# Altium integrated library NSC MiscPower.IntLib: 742 symbols (part 2 of 19)
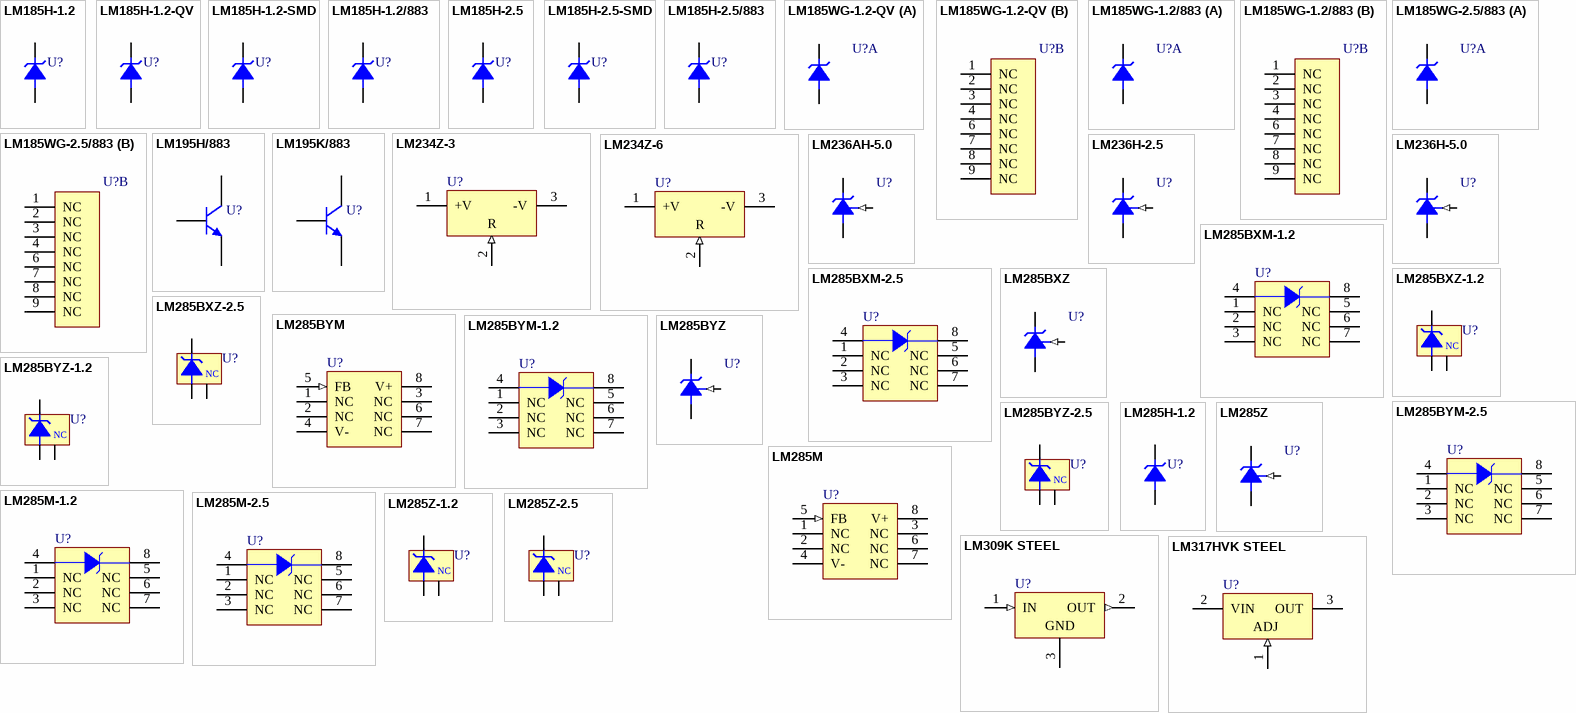
[diagram p26: symbols LM185H-1.2 to LM317HVK STEEL]

## LM195K/883
designator U?
Ultra Reliable Power Transistor; PartNumber: LM195K/883; Manufacturer: National Semiconductor; CompType: MiscPower; PackageTopMarking: NS ZSSXXYYA*LM195K/883*Q 5962-*8777801YA; FirstPublished: 4-Dec-2008; DatasheetVersion: Jul-2000; PackageVersion: revE, Sep-1995; PackageReference: K02C; Publisher: Altium Limited; PackageDescription: Metal Can TO-3, 2 Lead, Low Profile; RoHS: N; PinCount: 2; ComponentLink1Description: LM195 Datasheet; ComponentLink1URL: http://www.national.com/ds/LM/LM195.pdf; ComponentLink2Description: LM195 Web Page; ComponentLink2URL: http://www.national.com/pf/LM/LM195.html; ComponentLink3Description: K02C Package Page; ComponentLink3URL: http://www.national.com/packaging/folders/k02c.html
footprint K02C (Oval Flange Mount with (2) Offset Leads; Pin Spacing 10.92 mm; Lead Dia. 1.09 mm (max))
pins: 1 B, 2 C, 3 E

## LM234Z-3
designator U?
3-Terminal Adjustable Current Source; PartNumber: LM234Z-3; Manufacturer: National Semiconductor; CompType: MiscPower; PackageTopMarking: NSXYTT*LM234*Z-3; PowerWise: N; FirstPublished: 4-Dec-2008; DatasheetVersion: Mar-2005; PackageVersion: revG, Sep-2000; PackageReference: Z03A; Publisher: Altium Limited; PackageDescription: TO-92, Molded, 3 Lead; RoHS: O; PinCount: 3; DigiKeyPartNumber: LM234Z-3-ND; Code_JEDEC: TO-226-AA; ComponentLink1Description: LM234 Datasheet; ComponentLink1URL: http://www.national.com/ds/LM/LM134.pdf; ComponentLink2Description: LM234 Web Page; ComponentLink2URL: http://www.national.com/pf/LM/LM234.html; ComponentLink3Description: Z03A Package Page; ComponentLink3URL: http://www.national.com/packaging/folders/z03a.html
footprint Z03A (TO, Flat Index; 3 In-Line, Axial Leads; Body Dia. 5mm; Leads 0.55 x 0.50 mm (max))
pins: 1 +V, 2 R (in), 3 -V

## LM234Z-6
designator U?
3-Terminal Adjustable Current Source; PartNumber: LM234Z-6; Manufacturer: National Semiconductor; CompType: MiscPower; PackageTopMarking: NSXYTT*LM234*Z-6; PowerWise: N; FirstPublished: 4-Dec-2008; DatasheetVersion: Mar-2005; PackageVersion: revG, Sep-2000; PackageReference: Z03A; Publisher: Altium Limited; PackageDescription: TO-92, Molded, 3 Lead; RoHS: Y; PinCount: 3; DigiKeyPartNumber: LM234Z-6-ND; Code_JEDEC: TO-226-AA; ComponentLink1Description: LM234 Datasheet; ComponentLink1URL: http://www.national.com/ds/LM/LM134.pdf; ComponentLink2Description: LM234 Web Page; ComponentLink2URL: http://www.national.com/pf/LM/LM234.html; ComponentLink3Description: Z03A Package Page; ComponentLink3URL: http://www.national.com/packaging/folders/z03a.html
footprint Z03A (TO, Flat Index; 3 In-Line, Axial Leads; Body Dia. 5mm; Leads 0.55 x 0.50 mm (max))
pins: 1 +V, 2 R (in), 3 -V

## LM236AH-5.0
designator U?
5.0V Reference Diode; PartNumber: LM236AH-5.0; Manufacturer: National Semiconductor; CompType: MiscPower; PackageTopMarking: NSXYTTE# LM236AH5.0; PowerWise: N; FirstPublished: 4-Dec-2008; DatasheetVersion: Feb-2009; PackageVersion: revF, Apr-2002; PackageReference: H03H; Publisher: Altium Limited; PackageDescription: Metal Can, TO-46, 3 Lead, .100in Dia, P.C.; RoHS: O; PinCount: 3; DigiKeyPartNumber: LM236AH-5.0-ND; Code_JEDEC: TO-46; ComponentLink1Description: LM236-5.0 Datasheet; ComponentLink1URL: http://www.national.com/ds/LM/LM136-5.0.pdf; ComponentLink2Description: LM236-5.0 Web Page; ComponentLink2URL: http://www.national.com/pf/LM/LM236-5.0.html; ComponentLink3Description: H03H Package Page; ComponentLink3URL: http://www.national.com/packaging/folders/h03h.html
footprint H03H (Can; 3 Leads; Pin Circle Dia. 2.54 mm; Lead Dia. 0.48 mm (max))
pins: 1 ADJ (in), 2 +V, 3 -V

## LM236H-2.5
designator U?
Voltage Reference Diode; PartNumber: LM236H-2.5; Manufacturer: National Semiconductor; CompType: MiscPower; PackageTopMarking: NSXYTTE# LM236H2.5; PowerWise: N; FirstPublished: 4-Dec-2008; DatasheetVersion: Feb-2009; PackageVersion: revF, Apr-2002; PackageReference: H03H; Publisher: Altium Limited; PackageDescription: Metal Can, TO-46, 3 Lead, .100in Dia, P.C.; RoHS: O; PinCount: 3; DigiKeyPartNumber: LM236H-2.5-ND; Code_JEDEC: TO-46; ComponentLink1Description: LM236-2.5 Datasheet; ComponentLink1URL: http://www.national.com/ds/LM/LM136-2.5.pdf; ComponentLink2Description: LM236-2.5 Web Page; ComponentLink2URL: http://www.national.com/pf/LM/LM236-2.5.html; ComponentLink3Description: H03H Package Page; ComponentLink3URL: http://www.national.com/packaging/folders/h03h.html
footprint H03H (Can; 3 Leads; Pin Circle Dia. 2.54 mm; Lead Dia. 0.48 mm (max))
pins: 1 ADJ (in), 2 +V, 3 -V

## LM236H-5.0
designator U?
5.0V Reference Diode; PartNumber: LM236H-5.0; Manufacturer: National Semiconductor; CompType: MiscPower; PackageTopMarking: NSXYTTE# LM236H5.0; PowerWise: N; FirstPublished: 4-Dec-2008; DatasheetVersion: Feb-2009; PackageVersion: revF, Apr-2002; PackageReference: H03H; Publisher: Altium Limited; PackageDescription: Metal Can, TO-46, 3 Lead, .100in Dia, P.C.; RoHS: O; PinCount: 3; DigiKeyPartNumber: LM236H-5.0-ND; Code_JEDEC: TO-46; ComponentLink1Description: LM236-5.0 Datasheet; ComponentLink1URL: http://www.national.com/ds/LM/LM136-5.0.pdf; ComponentLink2Description: LM236-5.0 Web Page; ComponentLink2URL: http://www.national.com/pf/LM/LM236-5.0.html; ComponentLink3Description: H03H Package Page; ComponentLink3URL: http://www.national.com/packaging/folders/h03h.html
footprint H03H (Can; 3 Leads; Pin Circle Dia. 2.54 mm; Lead Dia. 0.48 mm (max))
pins: 1 ADJ (in), 2 +V, 3 -V

## LM285BXM-1.2
designator U?
Micropower Voltage Reference Diode; PartNumber: LM285BXM-1.2; Manufacturer: National Semiconductor; CompType: MiscPower; PackageTopMarking: NSZXTT*285BX*M1.2; PowerWise: N; FirstPublished: 4-Dec-2008; DatasheetVersion: Jan-2008; PackageVersion: revL, Sep-2006; PackageReference: M08A; Publisher: Altium Limited; PackageDescription: SOIC Narrow, 4.9 x 3.9 x 1.45mm, 8 Lead, 1.27mm Pitch; RoHS: O; PinCount: 8; DigiKeyPartNumber: LM285BXM-1.2-ND; Code_JEDEC: MS-012-AA; Code_IPC: SOIC127P600-8; ComponentLink1Description: LM285-1.2 Datasheet; ComponentLink1URL: http://www.national.com/ds/LM/LM185-1.2.pdf; ComponentLink2Description: LM285-1.2 Web Page; ComponentLink2URL: http://www.national.com/pf/LM/LM285-1.2.html; ComponentLink3Description: M08A Package Page; ComponentLink3URL: http://www.national.com/packaging/folders/m08a.html
footprint M08A_N (SOIC, 8-Leads, Body 4.9x3.9mm, Pitch 1.27mm, IPC Medium Density)
footprint M08A_L (SOIC, 8-Leads, Body 4.9x3.9mm, Pitch 1.27mm, IPC High Density)
footprint M08A_M (SOIC, 8-Leads, Body 4.9x3.9mm, Pitch 1.27mm, IPC Low Density)
pins: 1 NC, 2 NC, 3 NC, 4 A, 5 NC, 6 NC, 7 NC, 8 K

## LM285BXM-2.5
designator U?
Micropower Voltage Reference Diode; PartNumber: LM285BXM-2.5; Manufacturer: National Semiconductor; CompType: MiscPower; PackageTopMarking: NSZXTT*285BX*M2.5; PowerWise: N; FirstPublished: 4-Dec-2008; DatasheetVersion: Jan-2008; PackageVersion: revL, Sep-2006; PackageReference: M08A; Publisher: Altium Limited; PackageDescription: SOIC Narrow, 4.9 x 3.9 x 1.45mm, 8 Lead, 1.27mm Pitch; RoHS: O; PinCount: 8; DigiKeyPartNumber: LM285BXM-2.5-ND; Code_JEDEC: MS-012-AA; Code_IPC: SOIC127P600-8; ComponentLink1Description: LM285-2.5 Datasheet; ComponentLink1URL: http://www.national.com/ds/LM/LM185-2.5.pdf; ComponentLink2Description: LM285-2.5 Web Page; ComponentLink2URL: http://www.national.com/pf/LM/LM285-2.5.html; ComponentLink3Description: M08A Package Page; ComponentLink3URL: http://www.national.com/packaging/folders/m08a.html
footprint M08A_N (SOIC, 8-Leads, Body 4.9x3.9mm, Pitch 1.27mm, IPC Medium Density)
footprint M08A_L (SOIC, 8-Leads, Body 4.9x3.9mm, Pitch 1.27mm, IPC High Density)
footprint M08A_M (SOIC, 8-Leads, Body 4.9x3.9mm, Pitch 1.27mm, IPC Low Density)
pins: 1 NC, 2 NC, 3 NC, 4 A, 5 NC, 6 NC, 7 NC, 8 K

## LM285BXZ
designator U?
Adjustable Micropower Voltage Reference; PartNumber: LM285BXZ; Manufacturer: National Semiconductor; CompType: MiscPower; PackageTopMarking: NSXYTT*LM285*BXZ; PowerWise: N; FirstPublished: 4-Dec-2008; DatasheetVersion: Jan-2008; PackageVersion: revG, Sep-2000; PackageReference: Z03A; Publisher: Altium Limited; PackageDescription: TO-92, Molded, 3 Lead; RoHS: O; PinCount: 3; DigiKeyPartNumber: LM285BXZ-ND; Code_JEDEC: TO-226-AA; ComponentLink1Description: LM285-ADJ Datasheet; ComponentLink1URL: http://www.national.com/ds/LM/LM185-ADJ.pdf; ComponentLink2Description: LM285-ADJ Web Page; ComponentLink2URL: http://www.national.com/pf/LM/LM285-ADJ.html; ComponentLink3Description: Z03A Package Page; ComponentLink3URL: http://www.national.com/packaging/folders/z03a.html
footprint Z03A (TO, Flat Index; 3 In-Line, Axial Leads; Body Dia. 5mm; Leads 0.55 x 0.50 mm (max))
pins: 1 FB (in), 2 +V, 3 -V

## LM285BXZ-1.2
designator U?
Micropower Voltage Reference Diode; PartNumber: LM285BXZ-1.2; Manufacturer: National Semiconductor; CompType: MiscPower; PackageTopMarking: NSXYTT*285BX*Z-1.2; PowerWise: N; FirstPublished: 4-Dec-2008; DatasheetVersion: Jan-2008; PackageVersion: revG, Sep-2000; PackageReference: Z03A; Publisher: Altium Limited; PackageDescription: TO-92, Molded, 3 Lead; RoHS: Y; PinCount: 3; DigiKeyPartNumber: LM285BXZ-1.2-ND; Code_JEDEC: TO-226-AA; ComponentLink1Description: LM285-1.2 Datasheet; ComponentLink1URL: http://www.national.com/ds/LM/LM185-1.2.pdf; ComponentLink2Description: LM285-1.2 Web Page; ComponentLink2URL: http://www.national.com/pf/LM/LM285-1.2.html; ComponentLink3Description: Z03A Package Page; ComponentLink3URL: http://www.national.com/packaging/folders/z03a.html
footprint Z03A (TO, Flat Index; 3 In-Line, Axial Leads; Body Dia. 5mm; Leads 0.55 x 0.50 mm (max))
pins: 1 NC, 2 V+, 3 V-

## LM285BXZ-2.5
designator U?
Micropower Voltage Reference Diode; PartNumber: LM285BXZ-2.5; Manufacturer: National Semiconductor; CompType: MiscPower; PackageTopMarking: NSXYTT*285BX*Z2.5; PowerWise: N; FirstPublished: 4-Dec-2008; DatasheetVersion: Jan-2008; PackageVersion: revG, Sep-2000; PackageReference: Z03A; Publisher: Altium Limited; PackageDescription: TO-92, Molded, 3 Lead; RoHS: O; PinCount: 3; DigiKeyPartNumber: LM285BXZ-2.5-ND; Code_JEDEC: TO-226-AA; ComponentLink1Description: LM285-2.5 Datasheet; ComponentLink1URL: http://www.national.com/ds/LM/LM185-2.5.pdf; ComponentLink2Description: LM285-2.5 Web Page; ComponentLink2URL: http://www.national.com/pf/LM/LM285-2.5.html; ComponentLink3Description: Z03A Package Page; ComponentLink3URL: http://www.national.com/packaging/folders/z03a.html
footprint Z03A (TO, Flat Index; 3 In-Line, Axial Leads; Body Dia. 5mm; Leads 0.55 x 0.50 mm (max))
pins: 1 NC, 2 V+, 3 V-

## LM285BYM
designator U?
Adjustable Micropower Voltage Reference; PartNumber: LM285BYM; Manufacturer: National Semiconductor; CompType: MiscPower; PackageTopMarking: NSZXTT*LM285*BYM; PowerWise: N; FirstPublished: 4-Dec-2008; DatasheetVersion: Jan-2008; PackageVersion: revL, Sep-2006; PackageReference: M08A; Publisher: Altium Limited; PackageDescription: SOIC Narrow, 4.9 x 3.9 x 1.45mm, 8 Lead, 1.27mm Pitch; RoHS: O; PinCount: 8; DigiKeyPartNumber: LM285BYM-ND; Code_JEDEC: MS-012-AA; Code_IPC: SOIC127P600-8; ComponentLink1Description: LM285-ADJ Datasheet; ComponentLink1URL: http://www.national.com/ds/LM/LM185-ADJ.pdf; ComponentLink2Description: LM285-ADJ Web Page; ComponentLink2URL: http://www.national.com/pf/LM/LM285-ADJ.html; ComponentLink3Description: M08A Package Page; ComponentLink3URL: http://www.national.com/packaging/folders/m08a.html
footprint M08A_N (SOIC, 8-Leads, Body 4.9x3.9mm, Pitch 1.27mm, IPC Medium Density)
footprint M08A_L (SOIC, 8-Leads, Body 4.9x3.9mm, Pitch 1.27mm, IPC High Density)
footprint M08A_M (SOIC, 8-Leads, Body 4.9x3.9mm, Pitch 1.27mm, IPC Low Density)
pins: 1 NC, 2 NC, 3 NC, 4 V-, 5 FB (in), 6 NC, 7 NC, 8 V+

## LM285BYM-1.2
designator U?
Micropower Voltage Reference Diode; PartNumber: LM285BYM-1.2; Manufacturer: National Semiconductor; CompType: MiscPower; PackageTopMarking: NSZXTT*285BY*M1.2; PowerWise: N; FirstPublished: 4-Dec-2008; DatasheetVersion: Jan-2008; PackageVersion: revL, Sep-2006; PackageReference: M08A; Publisher: Altium Limited; PackageDescription: SOIC Narrow, 4.9 x 3.9 x 1.45mm, 8 Lead, 1.27mm Pitch; RoHS: O; PinCount: 8; Code_JEDEC: MS-012-AA; Code_IPC: SOIC127P600-8; ComponentLink1Description: LM285-1.2 Datasheet; ComponentLink1URL: http://www.national.com/ds/LM/LM185-1.2.pdf; ComponentLink2Description: LM285-1.2 Web Page; ComponentLink2URL: http://www.national.com/pf/LM/LM285-1.2.html; ComponentLink3Description: M08A Package Page; ComponentLink3URL: http://www.national.com/packaging/folders/m08a.html
footprint M08A_N (SOIC, 8-Leads, Body 4.9x3.9mm, Pitch 1.27mm, IPC Medium Density)
footprint M08A_L (SOIC, 8-Leads, Body 4.9x3.9mm, Pitch 1.27mm, IPC High Density)
footprint M08A_M (SOIC, 8-Leads, Body 4.9x3.9mm, Pitch 1.27mm, IPC Low Density)
pins: 1 NC, 2 NC, 3 NC, 4 A, 5 NC, 6 NC, 7 NC, 8 K

## LM285BYM-2.5
designator U?
Micropower Voltage Reference Diode; PartNumber: LM285BYM-2.5; Manufacturer: National Semiconductor; CompType: MiscPower; PackageTopMarking: NSZXTT*285BY*M2.5; PowerWise: N; FirstPublished: 4-Dec-2008; DatasheetVersion: Jan-2008; PackageVersion: revL, Sep-2006; PackageReference: M08A; Publisher: Altium Limited; PackageDescription: SOIC Narrow, 4.9 x 3.9 x 1.45mm, 8 Lead, 1.27mm Pitch; RoHS: O; PinCount: 8; DigiKeyPartNumber: LM285BYM-2.5-ND; Code_JEDEC: MS-012-AA; Code_IPC: SOIC127P600-8; ComponentLink1Description: LM285-2.5 Datasheet; ComponentLink1URL: http://www.national.com/ds/LM/LM185-2.5.pdf; ComponentLink2Description: LM285-2.5 Web Page; ComponentLink2URL: http://www.national.com/pf/LM/LM285-2.5.html; ComponentLink3Description: M08A Package Page; ComponentLink3URL: http://www.national.com/packaging/folders/m08a.html
footprint M08A_N (SOIC, 8-Leads, Body 4.9x3.9mm, Pitch 1.27mm, IPC Medium Density)
footprint M08A_L (SOIC, 8-Leads, Body 4.9x3.9mm, Pitch 1.27mm, IPC High Density)
footprint M08A_M (SOIC, 8-Leads, Body 4.9x3.9mm, Pitch 1.27mm, IPC Low Density)
pins: 1 NC, 2 NC, 3 NC, 4 A, 5 NC, 6 NC, 7 NC, 8 K

## LM285BYZ
designator U?
Adjustable Micropower Voltage Reference; PartNumber: LM285BYZ; Manufacturer: National Semiconductor; CompType: MiscPower; PackageTopMarking: NSXYTT*LM285*BYZ; PowerWise: N; FirstPublished: 4-Dec-2008; DatasheetVersion: Jan-2008; PackageVersion: revG, Sep-2000; PackageReference: Z03A; Publisher: Altium Limited; PackageDescription: TO-92, Molded, 3 Lead; RoHS: Y; PinCount: 3; DigiKeyPartNumber: LM285BYZ-ND; Code_JEDEC: TO-226-AA; ComponentLink1Description: LM285-ADJ Datasheet; ComponentLink1URL: http://www.national.com/ds/LM/LM185-ADJ.pdf; ComponentLink2Description: LM285-ADJ Web Page; ComponentLink2URL: http://www.national.com/pf/LM/LM285-ADJ.html; ComponentLink3Description: Z03A Package Page; ComponentLink3URL: http://www.national.com/packaging/folders/z03a.html
footprint Z03A (TO, Flat Index; 3 In-Line, Axial Leads; Body Dia. 5mm; Leads 0.55 x 0.50 mm (max))
pins: 1 FB (in), 2 +V, 3 -V

## LM285BYZ-1.2
designator U?
Micropower Voltage Reference Diode; PartNumber: LM285BYZ-1.2; Manufacturer: National Semiconductor; CompType: MiscPower; PackageTopMarking: NSXYTT*285BY*Z-1.2; FirstPublished: 4-Dec-2008; DatasheetVersion: Jan-2008; PackageVersion: revG, Sep-2000; PackageReference: Z03A; Publisher: Altium Limited; PackageDescription: TO-92, Molded, 3 Lead; RoHS: O; PinCount: 3; DigiKeyPartNumber: LM285BYZ-1.2-ND; Code_JEDEC: TO-226-AA; ComponentLink1Description: LM285-1.2 Datasheet; ComponentLink1URL: http://www.national.com/ds/LM/LM185-1.2.pdf; ComponentLink2Description: LM285-1.2 Web Page; ComponentLink2URL: http://www.national.com/pf/LM/LM285-1.2.html; ComponentLink3Description: Z03A Package Page; ComponentLink3URL: http://www.national.com/packaging/folders/z03a.html
footprint Z03A (TO, Flat Index; 3 In-Line, Axial Leads; Body Dia. 5mm; Leads 0.55 x 0.50 mm (max))
pins: 1 NC, 2 V+, 3 V-

## LM285BYZ-2.5
designator U?
Micropower Voltage Reference Diode; PartNumber: LM285BYZ-2.5; Manufacturer: National Semiconductor; CompType: MiscPower; PackageTopMarking: NSXYTT*285BY*Z2.5; PowerWise: N; FirstPublished: 4-Dec-2008; DatasheetVersion: Jan-2008; PackageVersion: revG, Sep-2000; PackageReference: Z03A; Publisher: Altium Limited; PackageDescription: TO-92, Molded, 3 Lead; RoHS: O; PinCount: 3; DigiKeyPartNumber: LM285BYZ-2.5-ND; Code_JEDEC: TO-226-AA; ComponentLink1Description: LM285-2.5 Datasheet; ComponentLink1URL: http://www.national.com/ds/LM/LM185-2.5.pdf; ComponentLink2Description: LM285-2.5 Web Page; ComponentLink2URL: http://www.national.com/pf/LM/LM285-2.5.html; ComponentLink3Description: Z03A Package Page; ComponentLink3URL: http://www.national.com/packaging/folders/z03a.html
footprint Z03A (TO, Flat Index; 3 In-Line, Axial Leads; Body Dia. 5mm; Leads 0.55 x 0.50 mm (max))
pins: 1 NC, 2 V+, 3 V-

## LM285H-1.2
designator U?
Micropower Voltage Reference Diode; PartNumber: LM285H-1.2; Manufacturer: National Semiconductor; CompType: MiscPower; PackageTopMarking: NSXYTTE# LM285H1.2; PowerWise: N; FirstPublished: 4-Dec-2008; DatasheetVersion: Jan-2008; PackageVersion: revF, Apr-2002; PackageReference: H02A; Publisher: Altium Limited; PackageDescription: Metal Can, TO-46, 2 Lead, .100in Dia, P.C.; RoHS: O; PinCount: 2; Code_JEDEC: TO-46; ComponentLink1Description: LM285-1.2 Datasheet; ComponentLink1URL: http://www.national.com/ds/LM/LM185-1.2.pdf; ComponentLink2Description: LM285-1.2 Web Page; ComponentLink2URL: http://www.national.com/pf/LM/LM285-1.2.html; ComponentLink3Description: H02A Package Page; ComponentLink3URL: http://www.national.com/packaging/folders/h02a.html
footprint H02A (Can; 2 Leads; Pin Circle Dia. 2.54 mm; Lead Dia. 0.48 mm (max))
pins: 1 V+ (power), 2 V- (power)

## LM285M
designator U?
Adjustable Micropower Voltage Reference; PartNumber: LM285M; Manufacturer: National Semiconductor; CompType: MiscPower; PackageTopMarking: NSZXTT*LM285*M; PowerWise: N; FirstPublished: 4-Dec-2008; DatasheetVersion: Jan-2008; PackageVersion: revL, Sep-2006; PackageReference: M08A; Publisher: Altium Limited; PackageDescription: SOIC Narrow, 4.9 x 3.9 x 1.45mm, 8 Lead, 1.27mm Pitch; RoHS: O; PinCount: 8; DigiKeyPartNumber: LM285M-ND; Code_JEDEC: MS-012-AA; Code_IPC: SOIC127P600-8; ComponentLink1Description: LM285-ADJ Datasheet; ComponentLink1URL: http://www.national.com/ds/LM/LM185-ADJ.pdf; ComponentLink2Description: LM285-ADJ Web Page; ComponentLink2URL: http://www.national.com/pf/LM/LM285-ADJ.html; ComponentLink3Description: M08A Package Page; ComponentLink3URL: http://www.national.com/packaging/folders/m08a.html
footprint M08A_N (SOIC, 8-Leads, Body 4.9x3.9mm, Pitch 1.27mm, IPC Medium Density)
footprint M08A_L (SOIC, 8-Leads, Body 4.9x3.9mm, Pitch 1.27mm, IPC High Density)
footprint M08A_M (SOIC, 8-Leads, Body 4.9x3.9mm, Pitch 1.27mm, IPC Low Density)
pins: 1 NC, 2 NC, 3 NC, 4 V-, 5 FB (in), 6 NC, 7 NC, 8 V+

## LM285M-1.2
designator U?
Micropower Voltage Reference Diode; PartNumber: LM285M-1.2; Manufacturer: National Semiconductor; CompType: MiscPower; PackageTopMarking: NSZXTT*LM285*M1.2; PowerWise: N; FirstPublished: 4-Dec-2008; DatasheetVersion: Jan-2008; PackageVersion: revL, Sep-2006; PackageReference: M08A; Publisher: Altium Limited; PackageDescription: SOIC Narrow, 4.9 x 3.9 x 1.45mm, 8 Lead, 1.27mm Pitch; RoHS: O; PinCount: 8; DigiKeyPartNumber: LM285M-1.2-ND; Code_JEDEC: MS-012-AA; Code_IPC: SOIC127P600-8; ComponentLink1Description: LM285-1.2 Datasheet; ComponentLink1URL: http://www.national.com/ds/LM/LM185-1.2.pdf; ComponentLink2Description: LM285-1.2 Web Page; ComponentLink2URL: http://www.national.com/pf/LM/LM285-1.2.html; ComponentLink3Description: M08A Package Page; ComponentLink3URL: http://www.national.com/packaging/folders/m08a.html
footprint M08A_N (SOIC, 8-Leads, Body 4.9x3.9mm, Pitch 1.27mm, IPC Medium Density)
footprint M08A_L (SOIC, 8-Leads, Body 4.9x3.9mm, Pitch 1.27mm, IPC High Density)
footprint M08A_M (SOIC, 8-Leads, Body 4.9x3.9mm, Pitch 1.27mm, IPC Low Density)
pins: 1 NC, 2 NC, 3 NC, 4 A, 5 NC, 6 NC, 7 NC, 8 K

## LM285M-2.5
designator U?
Micropower Voltage Reference Diode; PartNumber: LM285M-2.5; Manufacturer: National Semiconductor; CompType: MiscPower; PackageTopMarking: NSZXTT*LM285*M2.5; PowerWise: N; FirstPublished: 4-Dec-2008; DatasheetVersion: Jan-2008; PackageVersion: revL, Sep-2006; PackageReference: M08A; Publisher: Altium Limited; PackageDescription: SOIC Narrow, 4.9 x 3.9 x 1.45mm, 8 Lead, 1.27mm Pitch; RoHS: O; PinCount: 8; DigiKeyPartNumber: LM285M-2.5-ND; Code_JEDEC: MS-012-AA; Code_IPC: SOIC127P600-8; ComponentLink1Description: LM285-2.5 Datasheet; ComponentLink1URL: http://www.national.com/ds/LM/LM185-2.5.pdf; ComponentLink2Description: LM285-2.5 Web Page; ComponentLink2URL: http://www.national.com/pf/LM/LM285-2.5.html; ComponentLink3Description: M08A Package Page; ComponentLink3URL: http://www.national.com/packaging/folders/m08a.html
footprint M08A_N (SOIC, 8-Leads, Body 4.9x3.9mm, Pitch 1.27mm, IPC Medium Density)
footprint M08A_L (SOIC, 8-Leads, Body 4.9x3.9mm, Pitch 1.27mm, IPC High Density)
footprint M08A_M (SOIC, 8-Leads, Body 4.9x3.9mm, Pitch 1.27mm, IPC Low Density)
pins: 1 NC, 2 NC, 3 NC, 4 A, 5 NC, 6 NC, 7 NC, 8 K

## LM285Z
designator U?
Adjustable Micropower Voltage Reference; PartNumber: LM285Z; Manufacturer: National Semiconductor; CompType: MiscPower; PackageTopMarking: NSXYTT*LM285*Z; PowerWise: N; FirstPublished: 4-Dec-2008; DatasheetVersion: Jan-2008; PackageVersion: revG, Sep-2000; PackageReference: Z03A; Publisher: Altium Limited; PackageDescription: TO-92, Molded, 3 Lead; RoHS: O; PinCount: 3; DigiKeyPartNumber: LM285Z-ND; Code_JEDEC: TO-226-AA; ComponentLink1Description: LM285-ADJ Datasheet; ComponentLink1URL: http://www.national.com/ds/LM/LM185-ADJ.pdf; ComponentLink2Description: LM285-ADJ Web Page; ComponentLink2URL: http://www.national.com/pf/LM/LM285-ADJ.html; ComponentLink3Description: Z03A Package Page; ComponentLink3URL: http://www.national.com/packaging/folders/z03a.html
footprint Z03A (TO, Flat Index; 3 In-Line, Axial Leads; Body Dia. 5mm; Leads 0.55 x 0.50 mm (max))
pins: 1 FB (in), 2 +V, 3 -V

## LM285Z-1.2
designator U?
Micropower Voltage Reference Diode; PartNumber: LM285Z-1.2; Manufacturer: National Semiconductor; CompType: MiscPower; PackageTopMarking: NSXYTT*LM28*5Z-1.2; PowerWise: N; FirstPublished: 4-Dec-2008; DatasheetVersion: Jan-2008; PackageVersion: revG, Sep-2000; PackageReference: Z03A; Publisher: Altium Limited; PackageDescription: TO-92, Molded, 3 Lead; RoHS: Y; PinCount: 3; DigiKeyPartNumber: LM285Z-1.2NS-ND; Code_JEDEC: TO-226-AA; ComponentLink1Description: LM285-1.2 Datasheet; ComponentLink1URL: http://www.national.com/ds/LM/LM185-1.2.pdf; ComponentLink2Description: LM285-1.2 Web Page; ComponentLink2URL: http://www.national.com/pf/LM/LM285-1.2.html; ComponentLink3Description: Z03A Package Page; ComponentLink3URL: http://www.national.com/packaging/folders/z03a.html
footprint Z03A (TO, Flat Index; 3 In-Line, Axial Leads; Body Dia. 5mm; Leads 0.55 x 0.50 mm (max))
pins: 1 NC, 2 V+, 3 V-

## LM285Z-2.5
designator U?
Micropower Voltage Reference Diode; PartNumber: LM285Z-2.5; Manufacturer: National Semiconductor; CompType: MiscPower; PackageTopMarking: NSXYTT*LM285*Z-2.5; PowerWise: N; FirstPublished: 4-Dec-2008; DatasheetVersion: Jan-2008; PackageVersion: revG, Sep-2000; PackageReference: Z03A; Publisher: Altium Limited; PackageDescription: TO-92, Molded, 3 Lead; RoHS: O; PinCount: 3; DigiKeyPartNumber: LM285Z-2.5-ND; Code_JEDEC: TO-226-AA; ComponentLink1Description: LM285-2.5 Datasheet; ComponentLink1URL: http://www.national.com/ds/LM/LM185-2.5.pdf; ComponentLink2Description: LM285-2.5 Web Page; ComponentLink2URL: http://www.national.com/pf/LM/LM285-2.5.html; ComponentLink3Description: Z03A Package Page; ComponentLink3URL: http://www.national.com/packaging/folders/z03a.html
footprint Z03A (TO, Flat Index; 3 In-Line, Axial Leads; Body Dia. 5mm; Leads 0.55 x 0.50 mm (max))
pins: 1 NC, 2 V+, 3 V-

## LM309K STEEL
designator U?
5-Volt Regulator; PartNumber: LM309K STEEL; Manufacturer: National Semiconductor; CompType: MiscPower; PackageTopMarking: NS*ZXYTTE#*LM309K*STEELP+; PowerWise: N; FirstPublished: 4-Dec-2008; DatasheetVersion: Apr-1998; PackageVersion: revG, Oct-1991; PackageReference: K02A; Publisher: Altium Limited; PackageDescription: Metal Can (KA) TO-3, 2 Lead; RoHS: O; PinCount: 2; DigiKeyPartNumber: LM309K STEEL-ND; ComponentLink1Description: LM309 Datasheet; ComponentLink1URL: http://www.national.com/ds/LM/LM309.pdf; ComponentLink2Description: LM309 Web Page; ComponentLink2URL: http://www.national.com/pf/LM/LM309.html; ComponentLink3Description: K02A Package Page; ComponentLink3URL: http://www.national.com/packaging/folders/k02a.html
footprint K02A (Oval Flange Mount with (2) Offset Leads; Pin Spacing 10.93 mm; Lead Dia. 1.09 mm (max))
pins: 1 IN (in), 2 OUT (out), 3 GND (power)

## LM317HVK STEEL
designator U?
3-Terminal Adjustable Regulator; PartNumber: LM317HVK STEEL; Manufacturer: National Semiconductor; CompType: MiscPower; PackageTopMarking: NS*ZXYTTE#*LM317HVK*STEELP+; PowerWise: N; FirstPublished: 4-Dec-2008; DatasheetVersion: Apr-2000; PackageVersion: revB, Oct-1991; PackageReference: KC02B; Publisher: Altium Limited; PackageDescription: Metal CAN (KC), TO-3, 2 Lead; RoHS: O; PinCount: 2; DigiKeyPartNumber: LM317HVK STEEL-ND; Code_JEDEC: TO-3; ComponentLink1Description: LM317HV Datasheet; ComponentLink1URL: http://www.national.com/ds/LM/LM317HV.pdf; ComponentLink2Description: LM317HV Web Page; ComponentLink2URL: http://www.national.com/pf/LM/LM317HV.html; ComponentLink3Description: KC02B Package Page; ComponentLink3URL: http://www.national.com/packaging/folders/kc02b.html
footprint KC02B (Oval Flange Mount with (2) Offset Leads; Pin Spacing 10.92 mm; Lead Dia. 1.09 mm (max))
pins: 1 ADJ (in), 2 VIN (power), 3 OUT (power)

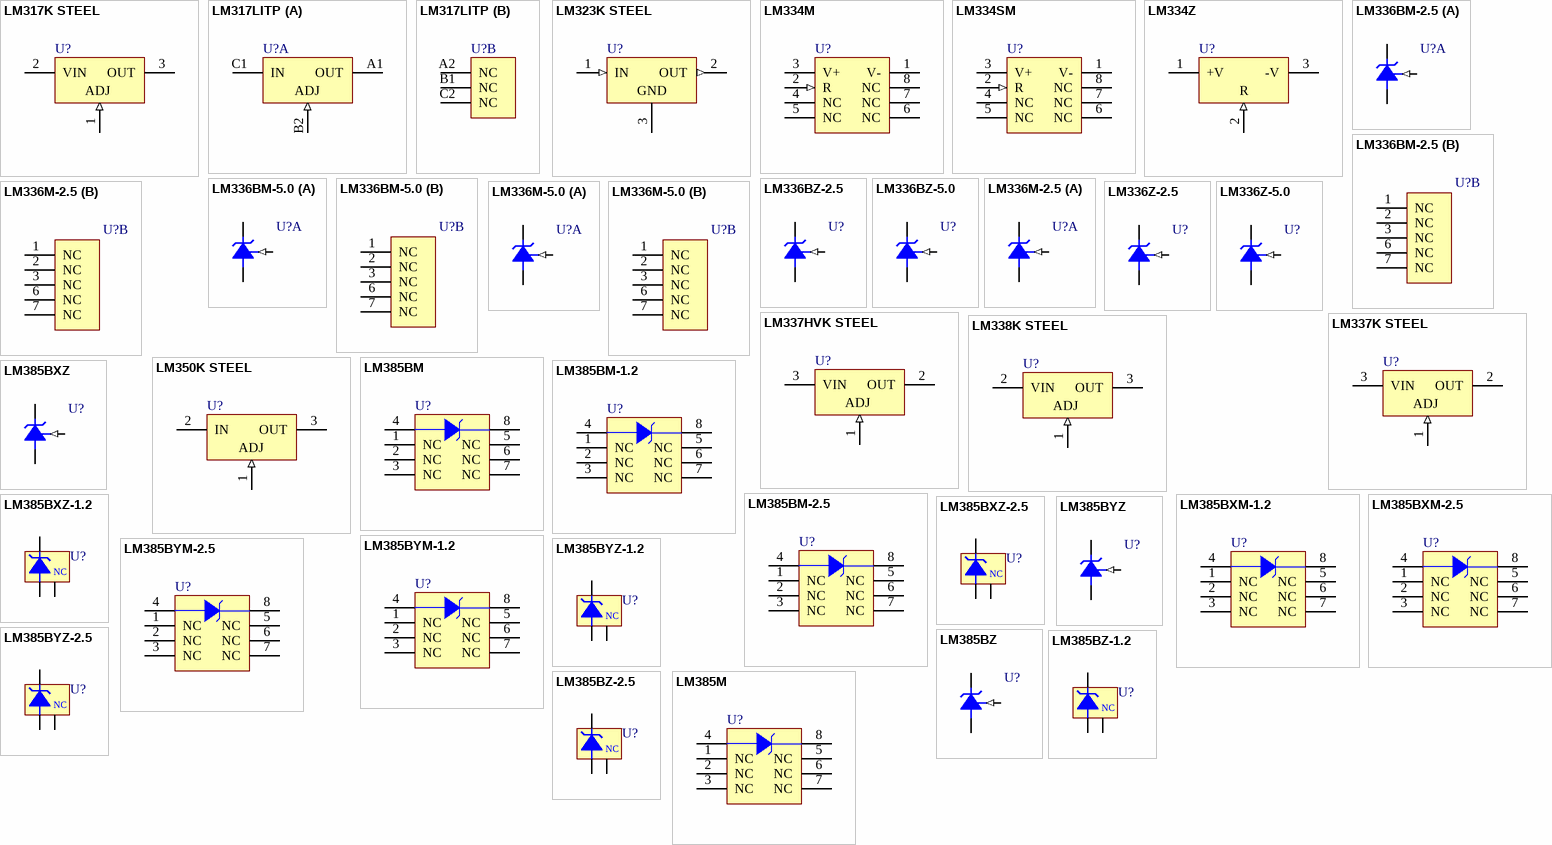
[diagram p2: symbols LM317K STEEL to LM385M]

## LM317K STEEL
designator U?
3-Terminal Adjustable Regulator; PartNumber: LM317K STEEL; Manufacturer: National Semiconductor; CompType: MiscPower; PackageTopMarking: NS*ZXYTTE#*LM317K*STEELP+; PowerWise: N; FirstPublished: 4-Dec-2008; DatasheetVersion: Apr-2007; PackageVersion: revG, Oct-1991; PackageReference: K02A; Publisher: Altium Limited; PackageDescription: Metal Can (KA) TO-3, 2 Lead; RoHS: O; PinCount: 2; DigiKeyPartNumber: LM317K STEEL-ND; ComponentLink1Description: LM317 Datasheet; ComponentLink1URL: http://www.national.com/ds/LM/LM317.pdf; ComponentLink2Description: LM317 Web Page; ComponentLink2URL: http://www.national.com/pf/LM/LM317.html; ComponentLink3Description: K02A Package Page; ComponentLink3URL: http://www.national.com/packaging/folders/k02a.html
footprint K02A (Oval Flange Mount with (2) Offset Leads; Pin Spacing 10.93 mm; Lead Dia. 1.09 mm (max))
pins: 1 ADJ (in), 2 VIN (power), 3 OUT (power)

## LM317LITP
designator U?
3-Terminal Adjustable Regulator; PartNumber: LM317LITP; Manufacturer: National Semiconductor; CompType: MiscPower; PackageTopMarking: XVP*I 1; PowerWise: N; FirstPublished: 4-Dec-2008; DatasheetVersion: Apr-2008; PackageVersion: revA, Mar-2002; PackageReference: TPA06HPA; Publisher: Altium Limited; PackageDescription: Thin Micro SMD, 6 Bump, 0.5mm Pitch; RoHS: Y; PinCount: 6; DigiKeyPartNumber: LM317LICT-ND; Code_JEDEC: MO-211-BB; ComponentLink1Description: LM317L Datasheet; ComponentLink1URL: http://www.national.com/ds/LM/LM317L.pdf; ComponentLink2Description: LM317L Web Page; ComponentLink2URL: http://www.national.com/pf/LM/LM317L.html; ComponentLink3Description: TPA06HPA Package Page; ComponentLink3URL: http://www.national.com/packaging/folders/tpa06hpa.html
footprint TPA06HPA (Micro SMD, 6-Leads, Body 1.62x0.96mm, Pitch 0.5mm, NSC Recommended)
part A pins: A1 OUT (power), B2 ADJ (in), C1 IN (power)
part B pins: A2 NC, B1 NC, C2 NC

## LM323K STEEL
designator U?
3-Amp, 5-Volt Positive Regulator; PartNumber: LM323K STEEL; Manufacturer: National Semiconductor; CompType: MiscPower; PackageTopMarking: NS*ZXYTTE#*LM323K*STEEL; PowerWise: N; FirstPublished: 4-Dec-2008; DatasheetVersion: Apr-1998; PackageVersion: revG, Oct-1991; PackageReference: K02A; Publisher: Altium Limited; PackageDescription: Metal Can (KA) TO-3, 2 Lead; RoHS: O; PinCount: 2; DigiKeyPartNumber: LM323K STEELNS-ND; ComponentLink1Description: LM323 Datasheet; ComponentLink1URL: http://www.national.com/ds/LM/LM323.pdf; ComponentLink2Description: LM323 Web Page; ComponentLink2URL: http://www.national.com/pf/LM/LM323.html; ComponentLink3Description: K02A Package Page; ComponentLink3URL: http://www.national.com/packaging/folders/k02a.html
footprint K02A (Oval Flange Mount with (2) Offset Leads; Pin Spacing 10.93 mm; Lead Dia. 1.09 mm (max))
pins: 1 IN (in), 2 OUT (out), 3 GND (power)

## LM334M
designator U?
3-Terminal Adjustable Current Source; PartNumber: LM334M; Manufacturer: National Semiconductor; CompType: MiscPower; PackageTopMarking: NSZXTT*LM334*M; PowerWise: N; FirstPublished: 4-Dec-2008; DatasheetVersion: Mar-2005; PackageVersion: revL, Sep-2006; PackageReference: M08A; Publisher: Altium Limited; PackageDescription: SOIC Narrow, 4.9 x 3.9 x 1.45mm, 8 Lead, 1.27mm Pitch; RoHS: O; PinCount: 8; DigiKeyPartNumber: LM334M-ND; Code_JEDEC: MS-012-AA; Code_IPC: SOIC127P600-8; ComponentLink1Description: LM334 Datasheet; ComponentLink1URL: http://www.national.com/ds/LM/LM134.pdf; ComponentLink2Description: LM334 Web Page; ComponentLink2URL: http://www.national.com/pf/LM/LM334.html; ComponentLink3Description: M08A Package Page; ComponentLink3URL: http://www.national.com/packaging/folders/m08a.html
footprint M08A_N (SOIC, 8-Leads, Body 4.9x3.9mm, Pitch 1.27mm, IPC Medium Density)
footprint M08A_L (SOIC, 8-Leads, Body 4.9x3.9mm, Pitch 1.27mm, IPC High Density)
footprint M08A_M (SOIC, 8-Leads, Body 4.9x3.9mm, Pitch 1.27mm, IPC Low Density)
pins: 1 V-, 2 R (in), 3 V+, 4 NC, 5 NC, 6 NC, 7 NC, 8 NC

## LM334SM
designator U?
3-Terminal Adjustable Current Source; PartNumber: LM334SM; Manufacturer: National Semiconductor; CompType: MiscPower; PackageTopMarking: NSZXTT*LM334*SM; PowerWise: N; FirstPublished: 4-Dec-2008; DatasheetVersion: Mar-2005; PackageVersion: revL, Sep-2006; PackageReference: M08A; Publisher: Altium Limited; PackageDescription: SOIC Narrow, 4.9 x 3.9 x 1.45mm, 8 Lead, 1.27mm Pitch; RoHS: O; PinCount: 8; DigiKeyPartNumber: LM334SM-ND; Code_JEDEC: MS-012-AA; Code_IPC: SOIC127P600-8; ComponentLink1Description: LM334 Datasheet; ComponentLink1URL: http://www.national.com/ds/LM/LM134.pdf; ComponentLink2Description: LM334 Web Page; ComponentLink2URL: http://www.national.com/pf/LM/LM334.html; ComponentLink3Description: M08A Package Page; ComponentLink3URL: http://www.national.com/packaging/folders/m08a.html
footprint M08A_N (SOIC, 8-Leads, Body 4.9x3.9mm, Pitch 1.27mm, IPC Medium Density)
footprint M08A_L (SOIC, 8-Leads, Body 4.9x3.9mm, Pitch 1.27mm, IPC High Density)
footprint M08A_M (SOIC, 8-Leads, Body 4.9x3.9mm, Pitch 1.27mm, IPC Low Density)
pins: 1 V-, 2 R (in), 3 V+, 4 NC, 5 NC, 6 NC, 7 NC, 8 NC

## LM334Z
designator U?
3-Terminal Adjustable Current Source; PartNumber: LM334Z; Manufacturer: National Semiconductor; CompType: MiscPower; PackageTopMarking: NSXYTT*LM334*Z; PowerWise: N; FirstPublished: 4-Dec-2008; DatasheetVersion: Mar-2005; PackageVersion: revG, Sep-2000; PackageReference: Z03A; Publisher: Altium Limited; PackageDescription: TO-92, Molded, 3 Lead; RoHS: O; PinCount: 3; DigiKeyPartNumber: LM334ZNS-ND; Code_JEDEC: TO-226-AA; ComponentLink1Description: LM334 Datasheet; ComponentLink1URL: http://www.national.com/ds/LM/LM134.pdf; ComponentLink2Description: LM334 Web Page; ComponentLink2URL: http://www.national.com/pf/LM/LM334.html; ComponentLink3Description: Z03A Package Page; ComponentLink3URL: http://www.national.com/packaging/folders/z03a.html
footprint Z03A (TO, Flat Index; 3 In-Line, Axial Leads; Body Dia. 5mm; Leads 0.55 x 0.50 mm (max))
pins: 1 +V, 2 R (in), 3 -V

## LM336BM-2.5
designator U?
Voltage Reference Diode; PartNumber: LM336BM-2.5; Manufacturer: National Semiconductor; CompType: MiscPower; PackageTopMarking: NSZXTT*LM336*BM2.5; PowerWise: N; FirstPublished: 4-Dec-2008; DatasheetVersion: Feb-2009; PackageVersion: revL, Sep-2006; PackageReference: M08A; Publisher: Altium Limited; PackageDescription: SOIC Narrow, 4.9 x 3.9 x 1.45mm, 8 Lead, 1.27mm Pitch; RoHS: O; PinCount: 8; DigiKeyPartNumber: LM336BM-2.5-ND; Code_JEDEC: MS-012-AA; Code_IPC: SOIC127P600-8; ComponentLink1Description: LM336-2.5 Datasheet; ComponentLink1URL: http://www.national.com/ds/LM/LM136-2.5.pdf; ComponentLink2Description: LM336-2.5 Web Page; ComponentLink2URL: http://www.national.com/pf/LM/LM336-2.5.html; ComponentLink3Description: M08A Package Page; ComponentLink3URL: http://www.national.com/packaging/folders/m08a.html
footprint M08A_N (SOIC, 8-Leads, Body 4.9x3.9mm, Pitch 1.27mm, IPC Medium Density)
footprint M08A_L (SOIC, 8-Leads, Body 4.9x3.9mm, Pitch 1.27mm, IPC High Density)
footprint M08A_M (SOIC, 8-Leads, Body 4.9x3.9mm, Pitch 1.27mm, IPC Low Density)
part A pins: 4 -V, 5 ADJ (in), 8 +V
part B pins: 1 NC, 2 NC, 3 NC, 6 NC, 7 NC

## LM336BM-5.0
designator U?
5.0V Reference Diode; PartNumber: LM336BM-5.0; Manufacturer: National Semiconductor; CompType: MiscPower; PackageTopMarking: NSZXTT*LM336*BM5.0; PowerWise: N; FirstPublished: 4-Dec-2008; DatasheetVersion: Feb-2009; PackageVersion: revL, Sep-2006; PackageReference: M08A; Publisher: Altium Limited; PackageDescription: SOIC Narrow, 4.9 x 3.9 x 1.45mm, 8 Lead, 1.27mm Pitch; RoHS: O; PinCount: 8; DigiKeyPartNumber: LM336BM-5.0-ND; Code_JEDEC: MS-012-AA; Code_IPC: SOIC127P600-8; ComponentLink1Description: LM336-5.0 Datasheet; ComponentLink1URL: http://www.national.com/ds/LM/LM136-5.0.pdf; ComponentLink2Description: LM336-5.0 Web Page; ComponentLink2URL: http://www.national.com/pf/LM/LM336-5.0.html; ComponentLink3Description: M08A Package Page; ComponentLink3URL: http://www.national.com/packaging/folders/m08a.html
footprint M08A_N (SOIC, 8-Leads, Body 4.9x3.9mm, Pitch 1.27mm, IPC Medium Density)
footprint M08A_L (SOIC, 8-Leads, Body 4.9x3.9mm, Pitch 1.27mm, IPC High Density)
footprint M08A_M (SOIC, 8-Leads, Body 4.9x3.9mm, Pitch 1.27mm, IPC Low Density)
part A pins: 4 -V, 5 ADJ (in), 8 +V
part B pins: 1 NC, 2 NC, 3 NC, 6 NC, 7 NC

## LM336BZ-2.5
designator U?
Voltage Reference Diode; PartNumber: LM336BZ-2.5; Manufacturer: National Semiconductor; CompType: MiscPower; PackageTopMarking: NSXYTT*LM336*BZ2.5; PowerWise: N; FirstPublished: 4-Dec-2008; DatasheetVersion: Feb-2009; PackageVersion: revG, Sep-2000; PackageReference: Z03A; Publisher: Altium Limited; PackageDescription: TO-92, Molded, 3 Lead; RoHS: O; PinCount: 3; DigiKeyPartNumber: LM336BZ-2.5-ND; Code_JEDEC: TO-226-AA; ComponentLink1Description: LM336-2.5 Datasheet; ComponentLink1URL: http://www.national.com/ds/LM/LM136-2.5.pdf; ComponentLink2Description: LM336-2.5 Web Page; ComponentLink2URL: http://www.national.com/pf/LM/LM336-2.5.html; ComponentLink3Description: Z03A Package Page; ComponentLink3URL: http://www.national.com/packaging/folders/z03a.html
footprint Z03A (TO, Flat Index; 3 In-Line, Axial Leads; Body Dia. 5mm; Leads 0.55 x 0.50 mm (max))
pins: 1 ADJ (in), 2 +V, 3 -V

## LM336BZ-5.0
designator U?
5.0V Reference Diode; PartNumber: LM336BZ-5.0; Manufacturer: National Semiconductor; CompType: MiscPower; PackageTopMarking: NSXYTT*LM336*BZ5.0; PowerWise: N; FirstPublished: 4-Dec-2008; DatasheetVersion: Feb-2009; PackageVersion: revG, Sep-2000; PackageReference: Z03A; Publisher: Altium Limited; PackageDescription: TO-92, Molded, 3 Lead; RoHS: O; PinCount: 3; DigiKeyPartNumber: LM336BZ-5.0-ND; Code_JEDEC: TO-226-AA; ComponentLink1Description: LM336-5.0 Datasheet; ComponentLink1URL: http://www.national.com/ds/LM/LM136-5.0.pdf; ComponentLink2Description: LM336-5.0 Web Page; ComponentLink2URL: http://www.national.com/pf/LM/LM336-5.0.html; ComponentLink3Description: Z03A Package Page; ComponentLink3URL: http://www.national.com/packaging/folders/z03a.html
footprint Z03A (TO, Flat Index; 3 In-Line, Axial Leads; Body Dia. 5mm; Leads 0.55 x 0.50 mm (max))
pins: 1 ADJ (in), 2 +V, 3 -V

## LM336M-2.5
designator U?
Voltage Reference Diode; PartNumber: LM336M-2.5; Manufacturer: National Semiconductor; CompType: MiscPower; PackageTopMarking: NSZXTT*LM336*M2.5; PowerWise: N; FirstPublished: 4-Dec-2008; DatasheetVersion: Feb-2009; PackageVersion: revL, Sep-2006; PackageReference: M08A; Publisher: Altium Limited; PackageDescription: SOIC Narrow, 4.9 x 3.9 x 1.45mm, 8 Lead, 1.27mm Pitch; RoHS: Y; PinCount: 8; DigiKeyPartNumber: LM336M-2.5-ND; Code_JEDEC: MS-012-AA; Code_IPC: SOIC127P600-8; ComponentLink1Description: LM336-2.5 Datasheet; ComponentLink1URL: http://www.national.com/ds/LM/LM136-2.5.pdf; ComponentLink2Description: LM336-2.5 Web Page; ComponentLink2URL: http://www.national.com/pf/LM/LM336-2.5.html; ComponentLink3Description: M08A Package Page; ComponentLink3URL: http://www.national.com/packaging/folders/m08a.html
footprint M08A_N (SOIC, 8-Leads, Body 4.9x3.9mm, Pitch 1.27mm, IPC Medium Density)
footprint M08A_L (SOIC, 8-Leads, Body 4.9x3.9mm, Pitch 1.27mm, IPC High Density)
footprint M08A_M (SOIC, 8-Leads, Body 4.9x3.9mm, Pitch 1.27mm, IPC Low Density)
part A pins: 4 -V, 5 ADJ (in), 8 +V
part B pins: 1 NC, 2 NC, 3 NC, 6 NC, 7 NC

## LM336M-5.0
designator U?
5.0V Reference Diode; PartNumber: LM336M-5.0; Manufacturer: National Semiconductor; CompType: MiscPower; PackageTopMarking: NSZXTT*LM336*M5.0; PowerWise: N; FirstPublished: 4-Dec-2008; DatasheetVersion: Feb-2009; PackageVersion: revL, Sep-2006; PackageReference: M08A; Publisher: Altium Limited; PackageDescription: SOIC Narrow, 4.9 x 3.9 x 1.45mm, 8 Lead, 1.27mm Pitch; RoHS: O; PinCount: 8; DigiKeyPartNumber: LM336M-5.0-ND; Code_JEDEC: MS-012-AA; Code_IPC: SOIC127P600-8; ComponentLink1Description: LM336-5.0 Datasheet; ComponentLink1URL: http://www.national.com/ds/LM/LM136-5.0.pdf; ComponentLink2Description: LM336-5.0 Web Page; ComponentLink2URL: http://www.national.com/pf/LM/LM336-5.0.html; ComponentLink3Description: M08A Package Page; ComponentLink3URL: http://www.national.com/packaging/folders/m08a.html
footprint M08A_N (SOIC, 8-Leads, Body 4.9x3.9mm, Pitch 1.27mm, IPC Medium Density)
footprint M08A_L (SOIC, 8-Leads, Body 4.9x3.9mm, Pitch 1.27mm, IPC High Density)
footprint M08A_M (SOIC, 8-Leads, Body 4.9x3.9mm, Pitch 1.27mm, IPC Low Density)
part A pins: 4 -V, 5 ADJ (in), 8 +V
part B pins: 1 NC, 2 NC, 3 NC, 6 NC, 7 NC

## LM336Z-2.5
designator U?
Voltage Reference Diode; PartNumber: LM336Z-2.5; Manufacturer: National Semiconductor; CompType: MiscPower; PackageTopMarking: NSXYTT*LM336*Z2.5; PowerWise: N; FirstPublished: 4-Dec-2008; DatasheetVersion: Feb-2009; PackageVersion: revG, Sep-2000; PackageReference: Z03A; Publisher: Altium Limited; PackageDescription: TO-92, Molded, 3 Lead; RoHS: O; PinCount: 3; DigiKeyPartNumber: LM336Z-2.5NS-ND; Code_JEDEC: TO-226-AA; ComponentLink1Description: LM336-2.5 Datasheet; ComponentLink1URL: http://www.national.com/ds/LM/LM136-2.5.pdf; ComponentLink2Description: LM336-2.5 Web Page; ComponentLink2URL: http://www.national.com/pf/LM/LM336-2.5.html; ComponentLink3Description: Z03A Package Page; ComponentLink3URL: http://www.national.com/packaging/folders/z03a.html
footprint Z03A (TO, Flat Index; 3 In-Line, Axial Leads; Body Dia. 5mm; Leads 0.55 x 0.50 mm (max))
pins: 1 ADJ (in), 2 +V, 3 -V

## LM336Z-5.0
designator U?
5.0V Reference Diode; PartNumber: LM336Z-5.0; Manufacturer: National Semiconductor; CompType: MiscPower; PackageTopMarking: NSXYTT*LM336*Z-5.0; PowerWise: N; FirstPublished: 4-Dec-2008; DatasheetVersion: Feb-2009; PackageVersion: revG, Sep-2000; PackageReference: Z03A; Publisher: Altium Limited; PackageDescription: TO-92, Molded, 3 Lead; RoHS: O; PinCount: 3; DigiKeyPartNumber: LM336Z-5.0-ND; Code_JEDEC: TO-226-AA; ComponentLink1Description: LM336-5.0 Datasheet; ComponentLink1URL: http://www.national.com/ds/LM/LM136-5.0.pdf; ComponentLink2Description: LM336-5.0 Web Page; ComponentLink2URL: http://www.national.com/pf/LM/LM336-5.0.html; ComponentLink3Description: Z03A Package Page; ComponentLink3URL: http://www.national.com/packaging/folders/z03a.html
footprint Z03A (TO, Flat Index; 3 In-Line, Axial Leads; Body Dia. 5mm; Leads 0.55 x 0.50 mm (max))
pins: 1 ADJ (in), 2 +V, 3 -V

## LM337HVK STEEL
designator U?
3-Terminal Adjustable Negative Regulator (High Voltage); PartNumber: LM337HVK STEEL; Manufacturer: National Semiconductor; CompType: MiscPower; PackageTopMarking: NS*ZXYTTE#*LM337HVK*STEEL; FirstPublished: 4-Dec-2008; DatasheetVersion: May-1999; PackageVersion: revG, Oct-1991; PackageReference: K02A; Publisher: Altium Limited; PackageDescription: Metal Can (KA) TO-3, 2 Lead; RoHS: O; PinCount: 2; DigiKeyPartNumber: LM337HVK STEEL-ND; ComponentLink1Description: LM337HV Datasheet; ComponentLink1URL: http://www.national.com/ds/LM/LM337HV.pdf; ComponentLink2Description: LM337HV Web Page; ComponentLink2URL: http://www.national.com/pf/LM/LM337HV.html; ComponentLink3Description: K02A Package Page; ComponentLink3URL: http://www.national.com/packaging/folders/k02a.html
footprint K02A (Oval Flange Mount with (2) Offset Leads; Pin Spacing 10.93 mm; Lead Dia. 1.09 mm (max))
pins: 1 ADJ (in), 2 OUT (power), 3 VIN (power)

## LM337K STEEL
designator U?
3-Terminal Adjustable Negative Regulator; PartNumber: LM337K STEEL; Manufacturer: National Semiconductor; CompType: MiscPower; PackageTopMarking: NS*ZXYTTE#*LM337K*STEEL; FirstPublished: 4-Dec-2008; DatasheetVersion: Nov-2004; PackageVersion: revG, Oct-1991; PackageReference: K02A; Publisher: Altium Limited; PackageDescription: Metal Can (KA) TO-3, 2 Lead; RoHS: O; PinCount: 2; DigiKeyPartNumber: LM337K STEEL-ND; ComponentLink1Description: LM337 Datasheet; ComponentLink1URL: http://www.national.com/ds/LM/LM337.pdf; ComponentLink2Description: LM337 Web Page; ComponentLink2URL: http://www.national.com/pf/LM/LM337.html; ComponentLink3Description: K02A Package Page; ComponentLink3URL: http://www.national.com/packaging/folders/k02a.html
footprint K02A (Oval Flange Mount with (2) Offset Leads; Pin Spacing 10.93 mm; Lead Dia. 1.09 mm (max))
pins: 1 ADJ (in), 2 OUT (power), 3 VIN (power)

## LM338K STEEL
designator U?
5 Amp Adjustable Regulator; PartNumber: LM338K STEEL; Manufacturer: National Semiconductor; CompType: MiscPower; PackageTopMarking: NS*ZXYTTE#*LM338K*STEELP+; PowerWise: N; FirstPublished: 4-Dec-2008; DatasheetVersion: May-1998; PackageVersion: revG, Oct-1991; PackageReference: K02A; Publisher: Altium Limited; PackageDescription: Metal Can (KA) TO-3, 2 Lead; RoHS: O; PinCount: 2; DigiKeyPartNumber: LM338K STEEL-ND; ComponentLink1Description: LM338 Datasheet; ComponentLink1URL: http://www.national.com/ds/LM/LM338.pdf; ComponentLink2Description: LM338 Web Page; ComponentLink2URL: http://www.national.com/pf/LM/LM338.html; ComponentLink3Description: K02A Package Page; ComponentLink3URL: http://www.national.com/packaging/folders/k02a.html
footprint K02A (Oval Flange Mount with (2) Offset Leads; Pin Spacing 10.93 mm; Lead Dia. 1.09 mm (max))
pins: 1 ADJ (in), 2 VIN (power), 3 OUT (power)

## LM350K STEEL
designator U?
3-Amp Adjustable Regulator; PartNumber: LM350K STEEL; Manufacturer: National Semiconductor; CompType: MiscPower; PackageTopMarking: NS*ZXYTTE#*LM350K*STEELP+; PowerWise: N; FirstPublished: 4-Dec-2008; DatasheetVersion: May-1998; PackageVersion: revG, Oct-1991; PackageReference: K02A; Publisher: Altium Limited; PackageDescription: Metal Can (KA) TO-3, 2 Lead; RoHS: O; PinCount: 2; DigiKeyPartNumber: LM350K STEELNS-ND; ComponentLink1Description: LM350 Datasheet; ComponentLink1URL: http://www.national.com/ds/LM/LM150.pdf; ComponentLink2Description: LM350 Web Page; ComponentLink2URL: http://www.national.com/pf/LM/LM350.html; ComponentLink3Description: K02A Package Page; ComponentLink3URL: http://www.national.com/packaging/folders/k02a.html
footprint K02A (Oval Flange Mount with (2) Offset Leads; Pin Spacing 10.93 mm; Lead Dia. 1.09 mm (max))
pins: 1 ADJ (in), 2 IN (power), 3 OUT (power)

## LM385BM
designator U?
Adjustable Micropower Voltage Reference; PartNumber: LM385BM; Manufacturer: National Semiconductor; CompType: MiscPower; PackageTopMarking: NSZXTT*LM385*BM; PowerWise: N; FirstPublished: 4-Dec-2008; DatasheetVersion: Jan-2008; PackageVersion: revL, Sep-2006; PackageReference: M08A; Publisher: Altium Limited; PackageDescription: SOIC Narrow, 4.9 x 3.9 x 1.45mm, 8 Lead, 1.27mm Pitch; RoHS: O; PinCount: 8; DigiKeyPartNumber: LM385BM-ND; Code_JEDEC: MS-012-AA; Code_IPC: SOIC127P600-8; ComponentLink1Description: LM385-ADJ Datasheet; ComponentLink1URL: http://www.national.com/ds/LM/LM185-ADJ.pdf; ComponentLink2Description: LM385-ADJ Web Page; ComponentLink2URL: http://www.national.com/pf/LM/LM385-ADJ.html; ComponentLink3Description: M08A Package Page; ComponentLink3URL: http://www.national.com/packaging/folders/m08a.html
footprint M08A_N (SOIC, 8-Leads, Body 4.9x3.9mm, Pitch 1.27mm, IPC Medium Density)
footprint M08A_L (SOIC, 8-Leads, Body 4.9x3.9mm, Pitch 1.27mm, IPC High Density)
footprint M08A_M (SOIC, 8-Leads, Body 4.9x3.9mm, Pitch 1.27mm, IPC Low Density)
pins: 1 NC, 2 NC, 3 NC, 4 A, 5 NC, 6 NC, 7 NC, 8 K

## LM385BM-1.2
designator U?
Micropower Voltage Reference Diode; PartNumber: LM385BM-1.2; Manufacturer: National Semiconductor; CompType: MiscPower; PackageTopMarking: NSZXTT*LM385*BM1.2; PowerWise: N; FirstPublished: 4-Dec-2008; DatasheetVersion: Jan-2008; PackageVersion: revL, Sep-2006; PackageReference: M08A; Publisher: Altium Limited; PackageDescription: SOIC Narrow, 4.9 x 3.9 x 1.45mm, 8 Lead, 1.27mm Pitch; RoHS: O; PinCount: 8; DigiKeyPartNumber: LM385BM-1.2-ND; Code_JEDEC: MS-012-AA; Code_IPC: SOIC127P600-8; ComponentLink1Description: LM385-1.2 Datasheet; ComponentLink1URL: http://www.national.com/ds/LM/LM185-1.2.pdf; ComponentLink2Description: LM385-1.2 Web Page; ComponentLink2URL: http://www.national.com/pf/LM/LM385-1.2.html; ComponentLink3Description: M08A Package Page; ComponentLink3URL: http://www.national.com/packaging/folders/m08a.html
footprint M08A_N (SOIC, 8-Leads, Body 4.9x3.9mm, Pitch 1.27mm, IPC Medium Density)
footprint M08A_L (SOIC, 8-Leads, Body 4.9x3.9mm, Pitch 1.27mm, IPC High Density)
footprint M08A_M (SOIC, 8-Leads, Body 4.9x3.9mm, Pitch 1.27mm, IPC Low Density)
pins: 1 NC, 2 NC, 3 NC, 4 A, 5 NC, 6 NC, 7 NC, 8 K

## LM385BM-2.5
designator U?
Micropower Voltage Reference Diode; PartNumber: LM385BM-2.5; Manufacturer: National Semiconductor; CompType: MiscPower; PackageTopMarking: NSZXTT*LM385*BM2.5; PowerWise: N; FirstPublished: 4-Dec-2008; DatasheetVersion: Jan-2008; PackageVersion: revL, Sep-2006; PackageReference: M08A; Publisher: Altium Limited; PackageDescription: SOIC Narrow, 4.9 x 3.9 x 1.45mm, 8 Lead, 1.27mm Pitch; RoHS: O; PinCount: 8; DigiKeyPartNumber: LM385BM-2.5-ND; Code_JEDEC: MS-012-AA; Code_IPC: SOIC127P600-8; ComponentLink1Description: LM385-2.5 Datasheet; ComponentLink1URL: http://www.national.com/ds/LM/LM185-2.5.pdf; ComponentLink2Description: LM385-2.5 Web Page; ComponentLink2URL: http://www.national.com/pf/LM/LM385-2.5.html; ComponentLink3Description: M08A Package Page; ComponentLink3URL: http://www.national.com/packaging/folders/m08a.html
footprint M08A_N (SOIC, 8-Leads, Body 4.9x3.9mm, Pitch 1.27mm, IPC Medium Density)
footprint M08A_L (SOIC, 8-Leads, Body 4.9x3.9mm, Pitch 1.27mm, IPC High Density)
footprint M08A_M (SOIC, 8-Leads, Body 4.9x3.9mm, Pitch 1.27mm, IPC Low Density)
pins: 1 NC, 2 NC, 3 NC, 4 A, 5 NC, 6 NC, 7 NC, 8 K

## LM385BXM-1.2
designator U?
Micropower Voltage Reference Diode; PartNumber: LM385BXM-1.2; Manufacturer: National Semiconductor; CompType: MiscPower; PackageTopMarking: NSZXTT*385BX*M1.2; PowerWise: N; FirstPublished: 4-Dec-2008; DatasheetVersion: Jan-2008; PackageVersion: revL, Sep-2006; PackageReference: M08A; Publisher: Altium Limited; PackageDescription: SOIC Narrow, 4.9 x 3.9 x 1.45mm, 8 Lead, 1.27mm Pitch; RoHS: O; PinCount: 8; DigiKeyPartNumber: LM385BXM-1.2-ND; Code_JEDEC: MS-012-AA; Code_IPC: SOIC127P600-8; ComponentLink1Description: LM385-1.2 Datasheet; ComponentLink1URL: http://www.national.com/ds/LM/LM185-1.2.pdf; ComponentLink2Description: LM385-1.2 Web Page; ComponentLink2URL: http://www.national.com/pf/LM/LM385-1.2.html; ComponentLink3Description: M08A Package Page; ComponentLink3URL: http://www.national.com/packaging/folders/m08a.html
footprint M08A_N (SOIC, 8-Leads, Body 4.9x3.9mm, Pitch 1.27mm, IPC Medium Density)
footprint M08A_L (SOIC, 8-Leads, Body 4.9x3.9mm, Pitch 1.27mm, IPC High Density)
footprint M08A_M (SOIC, 8-Leads, Body 4.9x3.9mm, Pitch 1.27mm, IPC Low Density)
pins: 1 NC, 2 NC, 3 NC, 4 A, 5 NC, 6 NC, 7 NC, 8 K

## LM385BXM-2.5
designator U?
Micropower Voltage Reference Diode; PartNumber: LM385BXM-2.5; Manufacturer: National Semiconductor; CompType: MiscPower; PackageTopMarking: NSZXTT*385BX*M2.5; PowerWise: N; FirstPublished: 4-Dec-2008; DatasheetVersion: Jan-2008; PackageVersion: revL, Sep-2006; PackageReference: M08A; Publisher: Altium Limited; PackageDescription: SOIC Narrow, 4.9 x 3.9 x 1.45mm, 8 Lead, 1.27mm Pitch; RoHS: O; PinCount: 8; DigiKeyPartNumber: LM385BXM-2.5-ND; Code_JEDEC: MS-012-AA; Code_IPC: SOIC127P600-8; ComponentLink1Description: LM385-2.5 Datasheet; ComponentLink1URL: http://www.national.com/ds/LM/LM185-2.5.pdf; ComponentLink2Description: LM385-2.5 Web Page; ComponentLink2URL: http://www.national.com/pf/LM/LM385-2.5.html; ComponentLink3Description: M08A Package Page; ComponentLink3URL: http://www.national.com/packaging/folders/m08a.html
footprint M08A_N (SOIC, 8-Leads, Body 4.9x3.9mm, Pitch 1.27mm, IPC Medium Density)
footprint M08A_L (SOIC, 8-Leads, Body 4.9x3.9mm, Pitch 1.27mm, IPC High Density)
footprint M08A_M (SOIC, 8-Leads, Body 4.9x3.9mm, Pitch 1.27mm, IPC Low Density)
pins: 1 NC, 2 NC, 3 NC, 4 A, 5 NC, 6 NC, 7 NC, 8 K